# Altium schematic symbol library Acoustic.SchLib: 1 symbol
Pins are listed as number, name and electrical type; pins without a type are passive.

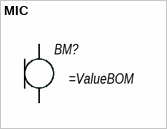
[diagram p0: symbol MIC]

## MIC
designator BM?
pins: 1, 2